# EAGLE library part PTH12040WAH (library PTH12040WAH)
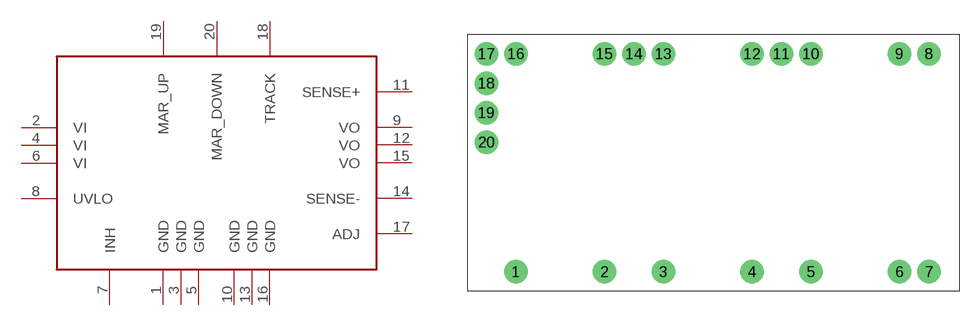
[diagram p0: symbol with the pads of PTH12040WAH; footprint PTH12040WAH]

Designator prefix IC

## PTH12040WAH  [PTH12040WAH]
1  GND  pas
2  VI  pas
3  GND  pas
4  VI  pas
5  GND  pas
6  VI  pas
7  INH  pas
8  UVLO  pas
9  VO  pas
10  GND  pas
11  SENSE+  pas
12  VO  pas
13  GND  pas
14  SENSE-  pas
15  VO  pas
16  GND  pas
17  ADJ  pas
18  TRACK  pas
19  MAR_UP  pas
20  MAR_DOWN  pas

## Footprint PTH12040WAH (pad centres in mm)
drill 1.3 pad 2.54 round: 1 -20.213,-12.377; 2 -10.688,-12.377; 3 -4.338,-12.377; 4 5.187,-12.377; 5 11.537,-12.377; 6 21.062,-12.377; 7 24.237,-12.377; 8 24.237,11.118; 9 21.062,11.118; 10 11.537,11.118; 11 8.362,11.118; 12 5.187,11.118; 13 -4.338,11.118; 14 -7.513,11.118; 15 -10.688,11.118; 16 -20.213,11.118; 17 -23.388,11.118; 18 -23.388,7.943; 19 -23.388,4.768; 20 -23.388,1.593